# Altium integrated library 3-1734035-2.IntLib: 1 symbol
Pins are listed as number, name and electrical type; pins without a type are passive.

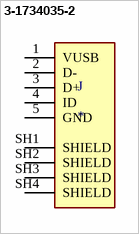
[diagram p0: symbol 3-1734035-2]

## 3-1734035-2
designator J
USB Connectors MINI USB, R/A, SMT, MATTE TIN, W/O MYLAR; MP: 3-1734035-2; MF: TE Connectivity; Availability: Unavailable; Package: None; SnapEDA_Link: https://www.snapeda.com/parts/3-1734035-2/TE%20Connectivity%20AMP%20Connectors/view-part/2071878/?ref=snap; TE_purchase_URL: https://www.te.com/usa-en/product-3-1734035-2.html?te_bu=Cor&te_type=disp&te_campaign=seda_glo_cor-seda-global-disp-prtnr-fy19-seda-model-bom-cta_sma-317_1&elqCampaignId=32493; Value: *; Price: None
footprint TE_3-1734035-2
pins: 1 VUSB, 2 D-, 3 D+, 4 ID, 5 GND, SH1 SHIELD, SH2 SHIELD, SH3 SHIELD, SH4 SHIELD